# Altium footprint library Inductors.PcbLib: 27 footprints (part 1 of 2)
Each footprint in its own frame and in the unit in brackets; x right, y up, seen from the top. Pads: shape width x height; smd on the part's side, far side on the other; paste and mask are expansions set on the pad; w line width, h text height; cw(c..) or ccw(c..) is an arc to the next point about the centre after c.
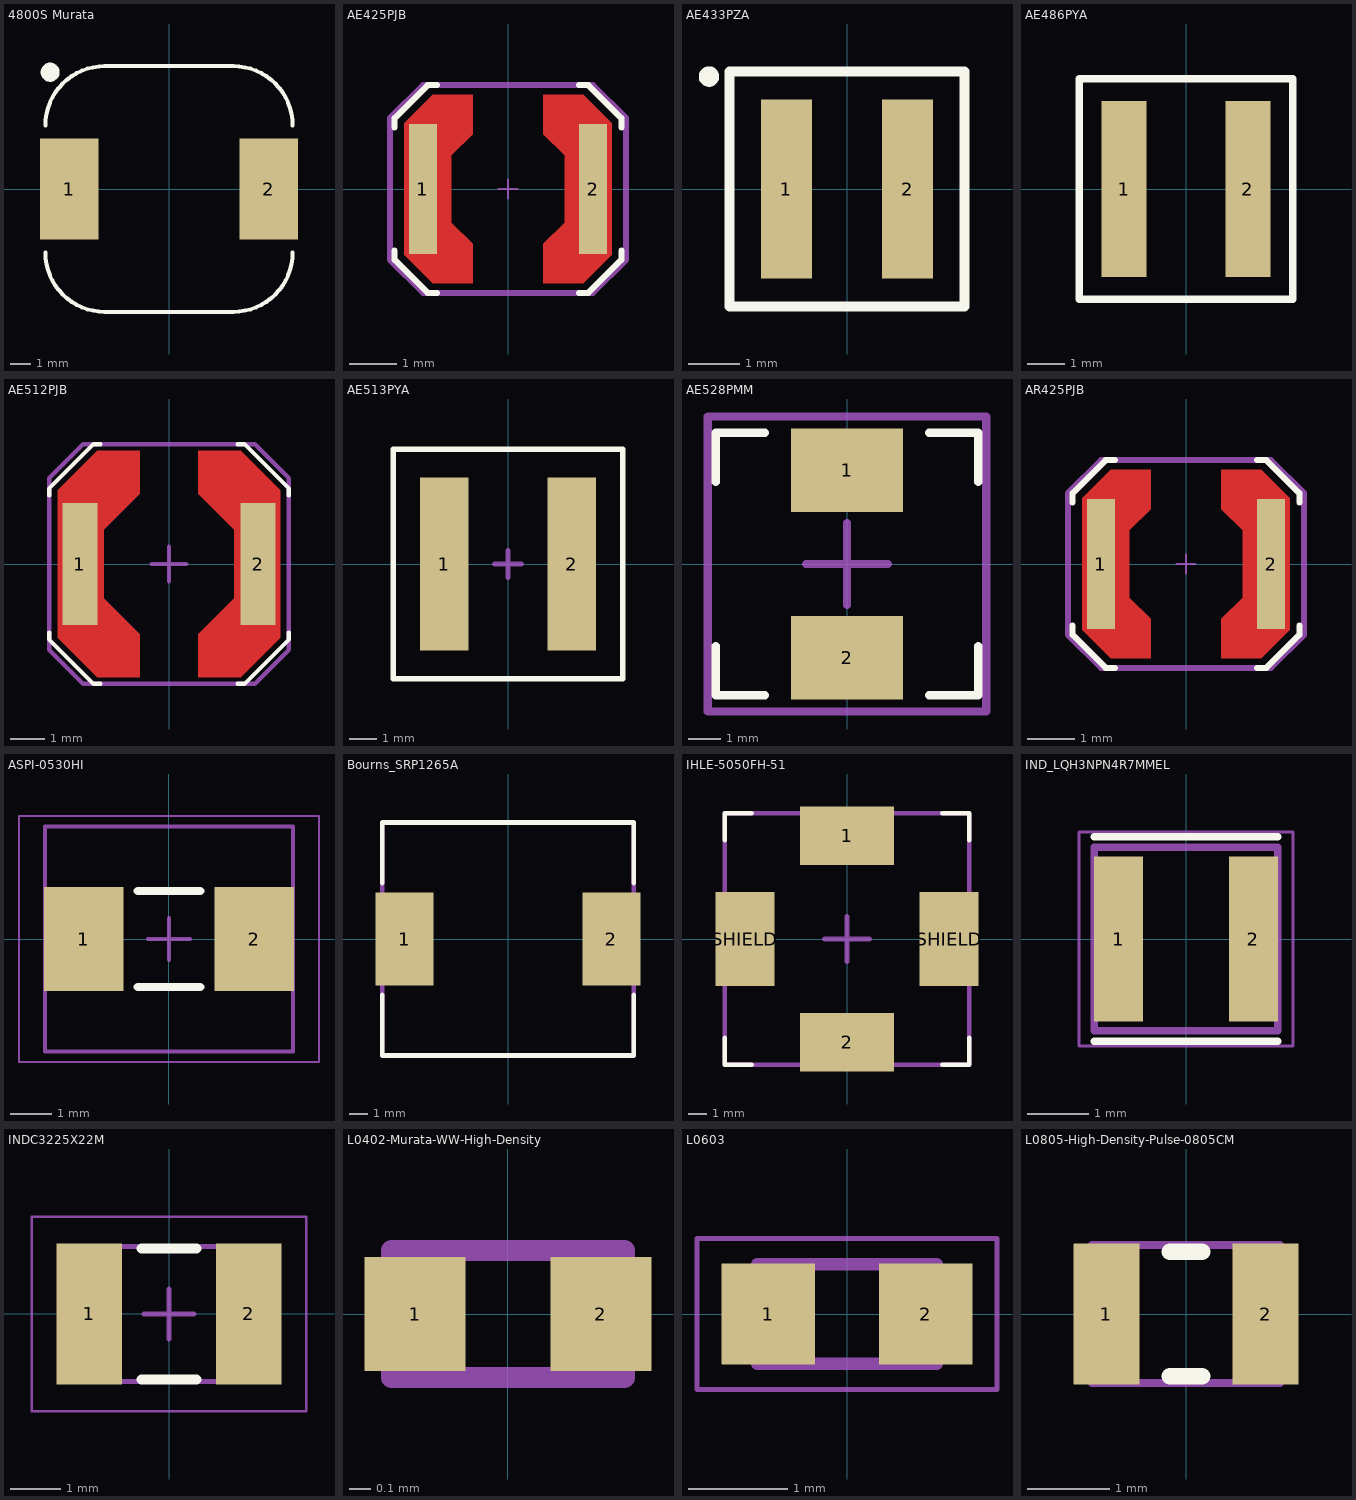
[diagram p0: the footprints below, top view; thin cyan lines are the x and y axes]

## 4800S Murata [mm] "Murata 4800S Power Inductors"
pads (2):
  rect 2.9x5 smd: 1(-4.95,0) 2(4.95,0)
Top Overlay:
  circle w0.5: c-5.9,5.8 r0.224
  lines w0.2: -6.14,-3.16 ccw(c-3.2,-3.16) -3.2,-6.1 3.2,-6.1 ccw(c3.2,-3.16) 6.14,-3.16 ; -6.14,3.16 cw(c-3.2,3.16) -3.2,6.1 3.2,6.1 cw(c3.2,3.16) 6.14,3.16
3D body "Murata 4800S Power Inductor v10.step": height 6, standoff 0, extent -6.1,-6.1 6.1,6.1

## AE425PJB [mm] "Coilcraft CPS Outgassing Compliant Power Inductors"
height 1.8
pads (2):
  rect 0.6x2.75 smd paste+0 mask+0: 1(-1.8,0) 2(1.8,0)
Top Layer:
  region: -0.75,-2 -0.75,-1.16 -1.2,-0.71 -1.2,0.71 -0.75,1.16 -0.75,2 -1.59,2 -2.2,1.39 -2.2,-1.39 -1.59,-2
  region: 0.75,-2 0.75,-1.16 1.2,-0.71 1.2,0.71 0.75,1.16 0.75,2 1.59,2 2.2,1.39 2.2,-1.39 1.59,-2
Top Overlay:
  lines w0.127: -2.4,-1.3 -2.4,-1.5 -1.7,-2.2 -1.5,-2.2 ; -2.4,1.3 -2.4,1.5 -1.7,2.2 -1.5,2.2 ; 1.5,-2.2 1.7,-2.2 2.4,-1.5 2.4,-1.3 ; 1.5,2.2 1.7,2.2 2.4,1.5 2.4,1.3
Mechanical 15:
  lines w0.05: -0.2,0 0,0 ; 0,-0.2 0,0 ; 0,0.2 0,0 ; 0.2,0 0,0
  lines w0.127: -2.5,-1.5 -1.8,-2.2 1.8,-2.2 2.5,-1.5 2.5,1.5 1.8,2.2 -1.8,2.2 -2.5,1.5 -2.5,-1.5
3D body "Coilcraft-AE425PJB.step": height 1.9, standoff 0, extent -1.99,-1.99 1.99,1.99

## AE433PZA [mm] "Outgassing Compliant Power Inductor"
height 2.1
pads (2):
  rect 1x3.5 smd: 1(-1.185,0) 2(1.185,0)
Top Overlay:
  circle w0.2: c-2.7,2.2 r0.1
  lines w0.2: -2.3,1 -2.3,2.3 2.3,2.3 2.3,-2.3 -2.3,-2.3 -2.3,1.1
3D body "Coilcraft-AE433PZA.step": height 2.1, standoff 0, extent -2.15,-2.15 2.15,2.15

## AE486PYA [mm] "Outgassing Compliant Power Inductor"
height 3.1
pads (2):
  rect 1.2x4.7 smd: 1(-1.655,0) 2(1.655,0)
Top Overlay:
  lines w0.2: -2.85,-2.95 -2.85,2.95 2.85,2.95 2.85,-2.95 -2.85,-2.95
3D body "Coilcraft-AE486PYA.step": height 3, standoff -0.1, extent -2.74,-2.84 2.74,2.84

## AE512PJB [mil] "Coilcraft CPS Outgassing Compliant Power Inductors"
height 137.8
pads (2):
  rect 40x140 smd: 1(-102.36,0) 2(102.36,0)
Top Layer:
  region: -33.46,-129.92 -33.47,-80.71 -74.8,-39.37 -74.8,39.37 -33.46,80.71 -33.46,129.92 -82.68,129.92 -127.96,84.65 -127.95,-84.65 -82.68,-129.92
  region: 33.46,-129.92 33.47,-80.71 74.8,-39.37 74.8,39.37 33.46,80.71 33.46,129.92 82.68,129.92 127.96,84.65 127.95,-84.65 82.68,-129.92
Top Overlay:
  lines w5: -137.8,-78.74 -137.8,-86.61 -86.61,-137.8 -78.74,-137.8 ; -137.8,78.74 -137.8,86.61 -86.61,137.8 -78.74,137.8 ; 78.74,-137.8 86.61,-137.8 137.8,-86.61 137.8,-78.74 ; 78.74,137.8 86.61,137.8 137.8,86.61 137.8,78.74
Mechanical 15:
  lines w5: -82.68,137.8 -98.43,137.8 -137.8,98.43 -137.8,-98.43 -98.43,-137.8 98.43,-137.8 137.8,-98.43 137.8,98.43 98.43,137.8 -78.74,137.8 ; -19.68,0 19.68,0 ; 0,-19.68 0,0 0,19.68
3D body "Coilcraft-AE512PJB.step": height 141.73, standoff 0, extent -119.61,-119.61 119.6,119.6

## AE513PYA [mm] "Outgassing Compliant Power Inductors"
height 2
pads (2):
  rect 1.8x6.4 smd: 1(-2.36,0) 2(2.36,0)
Top Overlay:
  lines w0.2: -4.25,-4.25 4.25,-4.25 4.25,4.25 -4.25,4.25 -4.25,-4.25
Mechanical 15:
  lines w0.2: -0.5,0 0.5,0 ; 0,-0.5 0,0.5
3D body "Coilcraft-XAL7020-471.step": height 1.9, standoff -0.1, extent -4,-4 4,4

## AE528PMM [mm] "Coilcraft CPS outgassing compliant power inductors"
height 5
pads (2):
  rect 3.43x2.54 smd: 1(0,2.86) 2(0,-2.86)
Top Overlay:
  lines w0.254: -4,-2.5 -4,-3.75 -4,-4 -3.75,-4 -2.5,-4 ; -4,2.5 -4,3.75 ; -4,3.5 -4,4 -3.5,4 ; -3.75,4 -2.5,4 ; 2.5,-4 3.75,-4 4,-4 4,-3.75 4,-2.5 ; 2.5,4 3.75,4 4,4 4,3.75 4,2.5
Mechanical 15:
  lines w0.254: -1.25,0 0,0 ; 0,-1.25 0,0 ; 0,1.25 0,0 ; 1.25,0 0,0 ; -4.25,-4.5 4.25,-4.5 4.25,4.5 -4.25,4.5 -4.25,-4.5
3D body "Coilcraft-AE528PMM.step": height 4.96, standoff 0, extent -3.745,-3.795 3.745,3.795

## AR425PJB [mm] "Coilcraft CPS Outgassing Compliant Power Inductors"
height 1.8
pads (2):
  rect 0.6x2.75 smd paste+0 mask+0: 1(-1.8,0) 2(1.8,0)
Top Layer:
  region: 0.75,-2 0.75,-1.16 1.2,-0.71 1.2,0.71 0.75,1.16 0.75,2 1.59,2 2.2,1.39 2.2,-1.39 1.59,-2
  region: -0.75,-2 -0.75,-1.16 -1.2,-0.71 -1.2,0.71 -0.75,1.16 -0.75,2 -1.59,2 -2.2,1.39 -2.2,-1.39 -1.59,-2
Top Overlay:
  lines w0.127: -2.4,-1.3 -2.4,-1.5 -1.7,-2.2 -1.5,-2.2 ; -2.4,1.3 -2.4,1.5 -1.7,2.2 -1.5,2.2 ; 1.5,-2.2 1.7,-2.2 2.4,-1.5 2.4,-1.3 ; 1.5,2.2 1.7,2.2 2.4,1.5 2.4,1.3
Mechanical 15:
  lines w0.05: -0.2,0 0,0 ; 0,-0.2 0,0 ; 0,0.2 0,0 ; 0.2,0 0,0
  lines w0.127: -2.5,-1.5 -1.8,-2.2 1.8,-2.2 2.5,-1.5 2.5,1.5 1.8,2.2 -1.8,2.2 -2.5,1.5 -2.5,-1.5
3D body "Coilcraft-AR425PJB.step": height 1.9, standoff 0, extent -1.99,-1.99 1.99,1.99

## ASPI-0530HI [mm] "Chip Inductor, 2-Leads, Body 5.60x5.20mm, IPC Medium Density"
height 3
pads (2):
  rect 1.9x2.5 smd: 1(-2.047,0) 2(2.048,0)
Top Overlay:
  lines w0.2: -0.75,-1.15 0.75,-1.15 ; -0.75,1.15 0.75,1.15
3D Bodies:
  lines w0.1: -2.975,-2.7 2.975,-2.7 2.975,2.7 -2.975,2.7 -2.975,-2.7
Mechanical 15:
  lines w0.05: -3.6,-2.95 3.6,-2.95 3.6,2.95 -3.6,2.95 -3.6,-2.95
  lines w0.1: -0.5,0 0.5,0 ; 0,-0.5 0,0.5
3D body "ASPI-0530HI.STEP": height 3.01, standoff 0.01, extent -2.8,-2.6 2.8,2.6

## Bourns_SRP1265A [mm] "Shielded Power Inductor"
height 6.4
pads (2):
  rect 3.1x5 smd: 1(-5.55,0) 2(5.55,0)
Top Overlay:
  lines w0.254: -6.75,-3 -6.75,-6.25 6.75,-6.25 6.75,-3 ; -6.75,3 -6.75,6.25 6.75,6.25 6.75,3
Top Assembly Dwg:
  lines w0.254: -6.75,-6.25 6.75,-6.25 6.75,6.25 -6.75,6.25 -6.75,-6.25
  text ".Designator" at -7.75,-1.25 h1.5
3D body: height 6.4, standoff 0, extent -6.749,-6.249 6.749,6.249

## IHLE-5050FH-51 [mm] "Vishay IHLE High Current Inductors with E-Field Shield"
height 5
pads (4):
  rect 5.21x3.265 smd: 1(0,5.733) 2(0,-5.733)
  rect 3.275x5.21 smd: SHIELD(-5.677,0) SHIELD(5.677,0)
Top Overlay:
  lines w0.254: -6.794,-5.485 -6.794,-6.735 -6.794,-6.985 -6.545,-6.985 -5.295,-6.985 ; -6.794,5.485 -6.794,6.735 ; -6.794,6.485 -6.794,6.985 -6.295,6.985 ; -6.545,6.985 -5.295,6.985 ; 5.295,-6.985 6.545,-6.985 6.794,-6.985 6.794,-6.735 6.794,-5.485 ; 5.295,6.985 6.545,6.985 6.794,6.985 6.794,6.735 6.794,5.485
Mechanical 15:
  lines w0.254: -1.25,0 0,0 ; 0,-1.25 0,0 ; 0,1.25 0,0 ; 1.25,0 0,0 ; -6.794,-6.985 6.794,-6.985 6.794,6.985 -6.794,6.985 -6.794,-6.985
3D body "IHLE5050FH v1.step": height 6.52, standoff -0.03, extent -6.681,-6.985 6.685,6.934

## IND_LQH3NPN4R7MMEL [mm]
pads (2):
  rect 0.8x2.7 smd: 1(-1.1,0) 2(1.1,0)
Top Overlay:
  lines w0.127: -1.5,-1.67 1.5,-1.67 ; -1.5,1.67 1.5,1.67
Top Assembly Dwg:
  lines w0.127: -1.5,-1.5 1.5,-1.5 ; -1.5,1.5 1.5,1.5
3D Bodies:
  lines w0.127: -1.5,-1.5 -1.5,1.5 ; 1.5,-1.5 1.5,1.5
Mechanical 15:
  lines w0.05: -1.75,-1.75 -1.75,1.75 1.75,1.75 1.75,-1.75 -1.75,-1.75
3D body "LQH3NPN4R7MMEL.STEP": height 1.5, standoff 0, extent -1.5,-1.5 1.5,1.5

## INDC3225X22M [mm] "Chip Inductor, 2-Leads, Body 3.20x2.50mm, IPC Low Density"
height 2.2
pads (2):
  rect 1.31x2.82 smd: 1(-1.595,0) 2(1.595,0)
Top Overlay:
  lines w0.2: -0.55,-1.31 0.55,-1.31 ; -0.55,1.31 0.55,1.31
3D Bodies:
  lines w0.1: -1.7,-1.35 1.7,-1.35 1.7,1.35 -1.7,1.35 -1.7,-1.35
Mechanical 15:
  lines w0.05: -2.75,-1.95 2.75,-1.95 2.75,1.95 -2.75,1.95 -2.75,-1.95
  lines w0.1: -0.5,0 0.5,0 ; 0,-0.5 0,0.5
3D body: height 2.2, standoff 0, extent 1.15,-1.35 1.7,1.35
3D body: height 2.2, standoff 0, extent -1.7,-1.35 -1.15,1.35
3D body: height 2.2, standoff 0, extent -1.15,-1.35 1.15,1.35

## L0402-Murata-WW-High-Density [mm] "Chip Inductor, 2-Leads, Body 1.00x0.50mm, IPC High Density"
height 0.6
pads (2):
  rect 0.48x0.54 smd: 1(-0.44,0) 2(0.44,0)
Top Assembly Dwg:
  lines w0.1: -0.55,-0.3 -0.55,0.3 0.55,0.3 0.55,-0.3 -0.55,-0.3
  text ".Designator" at -1.346,-0.229 h0.2
3D body "LQW15AN_W05.stp": height 0.5, standoff 0, extent -0.5,-0.25 0.5,0.25

## L0603 [mm]
pads (2):
  rect 0.94x1.02 smd: 1(-0.79,0) 2(0.79,0)
Bottom Assembly Dwg:
  lines w0.127: -0.9,-0.5 -0.9,0.5 ; -0.9,-0.5 0.9,-0.5 ; -0.9,-0.5 -0.9,0.5 ; -0.9,-0.5 0.9,-0.5 ; -0.9,0.5 0.9,0.5 ; -0.9,0.5 0.9,0.5 ; 0.9,-0.5 0.9,0.5 ; 0.9,-0.5 0.9,0.5
Mechanical 16:
  lines w0.05: -1.508,-0.758 -1.508,0.758 1.508,0.758 1.508,-0.758 -1.508,-0.758
3D body "ferrite_bead_0603.STEP": height 0.8, standoff 0, extent -0.8,-0.4 0.8,0.4

## L0805-High-Density-Pulse-0805CM [mm] "Chip Inductor, 2-Leads, Body 2.29x1.68mm, IPC High Density"
height 1.58
pads (2):
  rect 0.81x1.72 smd: 1(-0.97,0) 2(0.97,0)
Top Overlay:
  lines w0.2: -0.2,-0.76 0.2,-0.76 ; -0.2,0.76 0.2,0.76
Top Assembly Dwg:
  lines w0.1: -1.145,-0.84 -1.145,0.84 1.145,0.84 1.145,-0.84 -1.145,-0.84
  text ".Designator" at -2.35,-0.425 h0.38
3D body "L0805-High-Density-Pulse-0805CM.step": height 1.58, standoff 0, extent -1.145,-0.84 1.145,0.84